# EAGLE library part SN74LS139ADR (library sn74ls139)
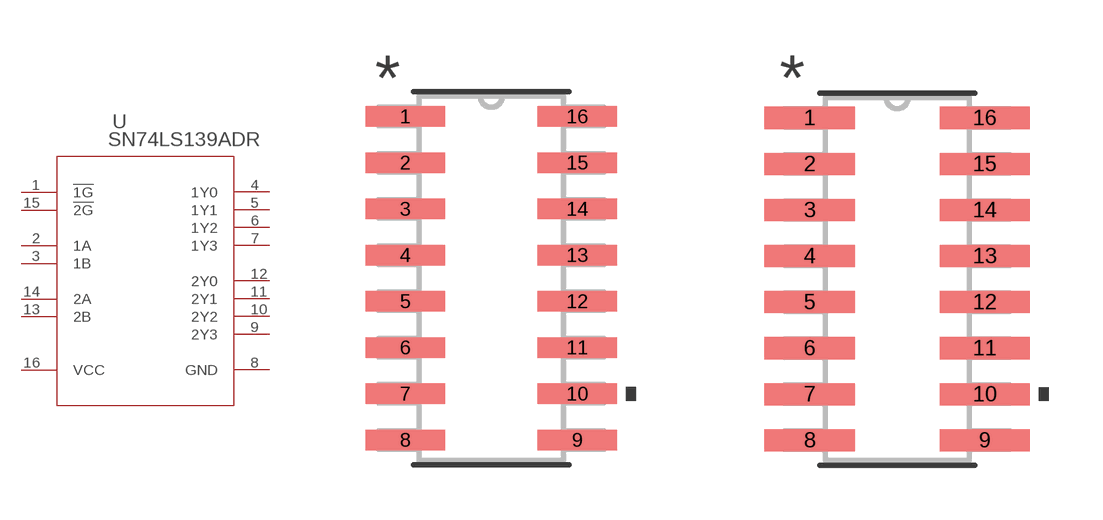
[diagram p0: symbol with the pads of D16; footprints D16, D16-M]

Designator prefix U

## SN74LS139ADR (MANUFACTURER_PART_NUMBER: SN74LS139ADR; VENDOR: Vendor)  [D16]
1  !1G  pwr
2  1A  in
3  1B  in
4  1Y0  out
5  1Y1  out
6  1Y2  out
7  1Y3  out
8  GND  pwr
9  2Y3  out
10  2Y2  out
11  2Y1  out
12  2Y0  out
13  2B  in
14  2A  in
15  !2G  in
16  VCC  pwr

## SN74LS139ADRD16-M (MANUFACTURER_PART_NUMBER: SN74LS139ADR; VENDOR: Vendor)  [D16-M]
Pads as for D16

## SN74LS139ADRD16-L (MANUFACTURER_PART_NUMBER: SN74LS139ADR; VENDOR: Vendor)  [D16-L]
Pads as for D16

## Footprint D16 (pad centres in mm)
smd 2.184 x 0.559: 1 -2.362,4.445; 2 -2.362,3.175; 3 -2.362,1.905; 4 -2.362,0.635; 5 -2.362,-0.635; 6 -2.362,-1.905; 7 -2.362,-3.175; 8 -2.362,-4.445; 9 2.362,-4.445; 10 2.362,-3.175; 11 2.362,-1.905; 12 2.362,-0.635; 13 2.362,0.635; 14 2.362,1.905; 15 2.362,3.175; 16 2.362,4.445

## Footprint D16-M (pad centres in mm)
smd 2.489 x 0.61: 1 -2.413,4.445; 2 -2.413,3.175; 3 -2.413,1.905; 4 -2.413,0.635; 5 -2.413,-0.635; 6 -2.413,-1.905; 7 -2.413,-3.175; 8 -2.413,-4.445; 9 2.413,-4.445; 10 2.413,-3.175; 11 2.413,-1.905; 12 2.413,-0.635; 13 2.413,0.635; 14 2.413,1.905; 15 2.413,3.175; 16 2.413,4.445

## Footprint D16-L (pad centres in mm)
smd 1.88 x 0.508: 1 -2.311,4.445; 2 -2.311,3.175; 3 -2.311,1.905; 4 -2.311,0.635; 5 -2.311,-0.635; 6 -2.311,-1.905; 7 -2.311,-3.175; 8 -2.311,-4.445; 9 2.311,-4.445; 10 2.311,-3.175; 11 2.311,-1.905; 12 2.311,-0.635; 13 2.311,0.635; 14 2.311,1.905; 15 2.311,3.175; 16 2.311,4.445